# Altium footprint library Specific Footprints.PcbLib: 54 footprints (part 2 of 4)
Each footprint in its own frame and in the unit in brackets; x right, y up, seen from the top. Pads: shape width x height; smd on the part's side, far side on the other; paste and mask are expansions set on the pad; w line width, h text height; cw(c..) or ccw(c..) is an arc to the next point about the centre after c.
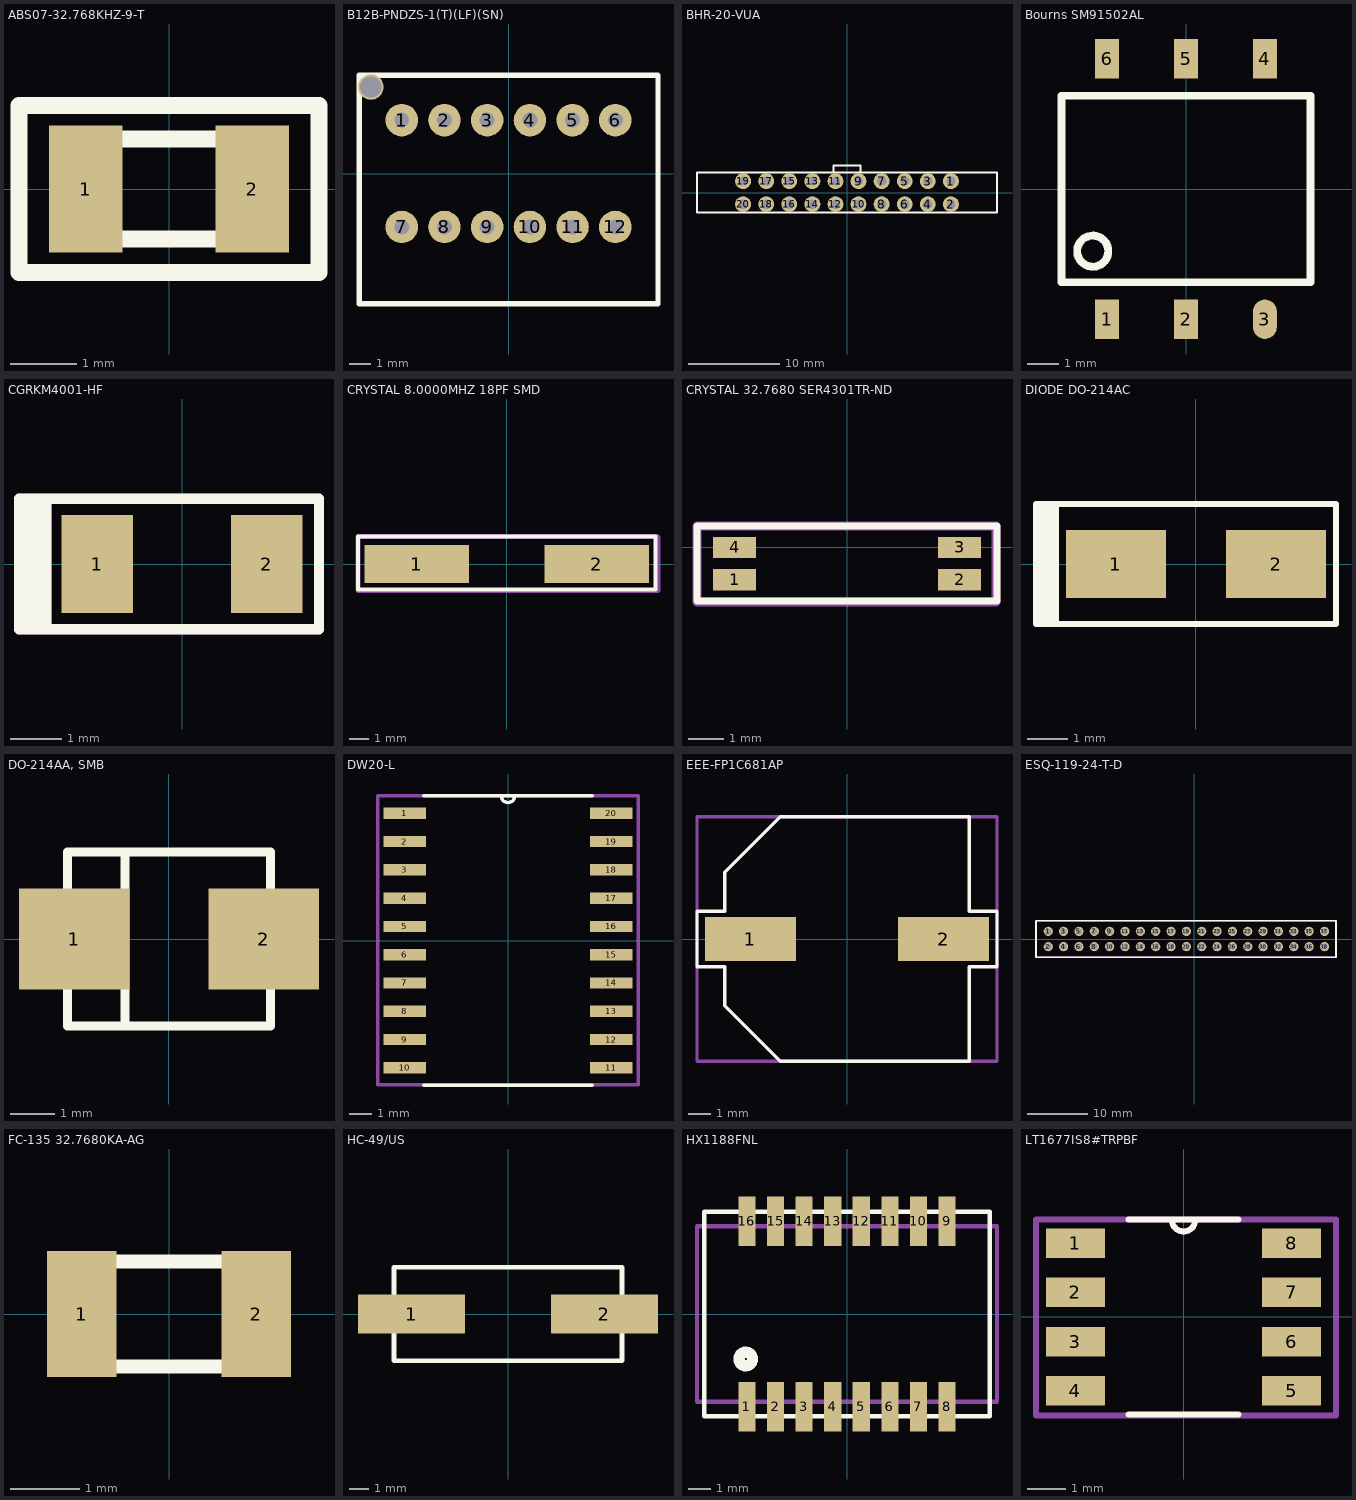
[diagram p1: the footprints below, top view; thin cyan lines are the x and y axes]

## ABS07-32.768KHZ-9-T [mm] "32.768kHz ±20ppm Crystal 9pF 70 kOhms 2-SMD, No Lead"
pads (2):
  rect 1.1x1.9 smd: 1(-1.25,0) 2(1.25,0)
Top Overlay:
  lines w0.254: -2.25,-1.25 2.25,-1.25 2.25,1.25 -2.25,1.25 -2.25,-1.25 ; -1.6,-0.75 1.6,-0.75 1.6,0.75 -1.6,0.75 -1.6,-0.75
3D body "ABS07.STEP": height 0.9, standoff 0.01, extent -1.6,-0.749 1.6,0.749

## B12B-PNDZS-1(T)(LF)(SN) [mm]
pads (13):
  round 1.524 hole 0.7: 1(-5,2.5) 2(-3,2.5) 3(-1,2.5) 4(1,2.5) 5(3,2.5) 6(5,2.5) 7(-5,-2.5) 8(-3,-2.5) 9(-1,-2.5) 10(1,-2.5) 11(3,-2.5) 12(5,-2.5)
  round 1.2 hole 1: ""(-6.45,4.05)
Top Overlay:
  lines w0.254: -7,-6.1 -7,4.6 7,4.6 7,-6.1 -7,-6.1

## BHR-20-VUA [mm]
pads (20):
  round 1.75 hole 1.02: 1(11.43,1.27) 2(11.43,-1.27) 3(8.89,1.27) 4(8.89,-1.27) 5(6.35,1.27) 6(6.35,-1.27) 7(3.81,1.27) 8(3.81,-1.27) 9(1.27,1.27) 10(1.27,-1.27) 11(-1.27,1.27) 12(-1.27,-1.27) 13(-3.81,1.27) 14(-3.81,-1.27) 15(-6.35,1.27) 16(-6.35,-1.27) 17(-8.89,1.27) 18(-8.89,-1.27) 19(-11.43,1.27) 20(-11.43,-1.27)
Top Overlay:
  lines w0.2: -1.5,2.25 -1.5,3 1.5,3 1.5,2.25 ; -16.5,-2.2 16.5,-2.2 16.5,2.2 -16.5,2.2 -16.5,-2.2

## Bourns SM91502AL [mm]
pads (6):
  rect 0.76x1.27 smd: 1(-2.54,-4.19) 2(0,-4.19) 4(2.54,4.19) 5(0,4.19) 6(-2.54,4.19)
  oval 0.76x1.27 smd: 3(2.54,-4.19)
Top Overlay:
  circle w0.254: c-3,-2 r0.5
  lines w0.254: -4,-3 -4,3 4,3 4,-3 2,-3 -2,-3 -4,-3

## CGRKM4001-HF [mil]
pads (2):
  rect 55x75 smd: 1(-65,0) 2(65,0)
Top Overlay:
  rectangle: -125,-50 -100,50
  lines w7.87: -125,-50 -125,50 105,50 105,-50 -125,-50
Mechanical 5:
  rectangle: -125,-50 -100,50
  lines w7.87: -125,-50 -125,50 105,50 105,-50 -125,-50
  text "'.Designator'" at -92,-11 h19.68
3D body "CGRKM.step": height 67.24, standoff 0, extent -73,-35.52 72.99,35.5

## CRYSTAL 8.0000MHZ 18PF SMD [mm]
pads (2):
  rect 5.5x2 smd: 1(-4.75,0) 2(4.75,0)
Top Overlay:
  lines w0.2: -7.85,-1.35 7.85,-1.35 7.85,1.45 -7.85,1.45 -7.85,1.15 -7.85,-1.35
Mechanical 5:
  lines w0.254: -7.85,-1.4 -7.85,1.45 7.7,1.45 7.925,1.45 7.975,1.4 7.975,-1.4 -7.85,-1.4
  text "'.Designator'" at -5.825,-0.3 h1
3D body "User Library-ECS-240-20-5PX-TR.STEP": height 4.3, standoff 0, extent -6.575,-2.425 6.625,2.375

## CRYSTAL 32.7680 SER4301TR-ND [mm] "CRYSTAL 32.7680 KHZ 12.5PF SMD"
pads (4):
  rect 1.2x0.6 smd: 1(-3.15,-0.9) 2(3.15,-0.9) 3(3.15,0) 4(-3.15,0)
Top Overlay:
  lines w0.2: -4.2,-1.5 -4.2,-0.75 -4.2,0.6 4.2,0.6 4.2,-1.5 -4.2,-1.5
Mechanical 5:
  lines w0.254: -4.2,-1.525 4.175,-1.525 4.175,0.6 -4.2,0.6 -4.2,-1.525
  text "'.Designator'" at -2.025,-0.45 h0.35

## DIODE DO-214AC [mm]
pads (2):
  rect 2.5x1.7 smd: 1(-2,0) 2(2,0)
Top Overlay:
  rectangle: -4,-1.5 -3.5,1.5
  region: -3.5,1.25
  lines w0.152: -4,-1.5 -4,1.5 ; -4,-1.5 -3.5,-1.5 ; -4,-1.5 -4,1.5 ; -4,1.5 -3.5,1.5 ; -3.5,-1.5 -3.5,1.5 ; -3.5,-1.5 3.5,-1.5 3.5,1.5 -3.5,1.5
3D body "DO-214AC(SMA).step": height 2.3, standoff 0.01, extent -2.743,-1.397 2.743,1.397

## DO-214AA, SMB [mm]
pads (2):
  rect 2.5x2.3 smd: 1(-2.15,0) 2(2.15,0)
Top Overlay:
  lines w0.2: -1,-1.975 -1,1.975 ; -2.3,-1.975 2.3,-1.975 2.3,1.975 -2.3,1.975 -2.3,-1.975

## DW20-L [mil]
pads (20):
  rect 75x20 smd: 1(-182.5,225) 2(-182.5,175) 3(-182.5,125) 4(-182.5,75) 5(-182.5,25) 6(-182.5,-25) 7(-182.5,-75) 8(-182.5,-125) 9(-182.5,-175) 10(-182.5,-225) 11(182.5,-225) 12(182.5,-175) 13(182.5,-125) 14(182.5,-75) 15(182.5,-25) 16(182.5,25) 17(182.5,75) 18(182.5,125) 19(182.5,175) 20(182.5,225)
Top Overlay:
  lines w6: -149.5,-256 149.5,-256 ; -149.5,256 149.5,256 ; -12,256 ccw(c0,256) 12,256
Mechanical 5:
  lines w5.98: -230,-255 -230,256 ; 230,-255 230,256
  lines w6: -230,-255 230,-255 ; -230,256 230,256 ; -12,256 ccw(c0,256) 12,256
  text "'.Designator'" at -143,-7 h27.56
3D body "DW20-L.stp": height 104.1, standoff 0, extent -209.5,-256 209.5,256

## EEE-FP1C681AP [mm]
pads (2):
  rect 4.1x2 smd: 1(-4.35,0) 2(4.35,0)
Top Overlay:
  lines w0.152: -6.75,-1.25 -6.75,1.25 -6.5,1.25 -5.5,1.25 -5.5,3 -3,5.5 5.5,5.5 5.5,1.25 6.75,1.25 6.75,-1.25 5.5,-1.25 5.5,-5.5 -3,-5.5 -5.5,-3 -5.5,-1.25 -6.75,-1.25
Mechanical 5:
  lines w0.152: -6.75,-5.5 6.75,-5.5 6.75,-1.25 6.75,1.25 6.75,5.5 -6.75,5.5 -6.75,1.25 -6.75,-1.25 -6.75,-5.5
  text "'.Designator'" at -1.5,-0.25 h0.6
3D body "680ucap.stp": height 10.21, standoff 0.01, extent -5.85,-5.15 5.85,5.15

## ESQ-119-24-T-D [mil] "2x19 Elevated Socket"
pads (38):
  round 60 hole 40: 1(-950,50) 2(-950,-50) 3(-850,50) 4(-850,-50) 5(-750,50) 6(-750,-50) 7(-650,50) 8(-650,-50) 9(-550,50) 10(-550,-50) 11(-450,50) 12(-450,-50) 13(-350,50) 14(-350,-50) 15(-250,50) 16(-250,-50) 17(-150,50) 18(-150,-50) 19(-50,50) 20(-50,-50) 21(50,50) 22(50,-50) 23(150,50) 24(150,-50) 25(250,50) 26(250,-50) 27(350,50) 28(350,-50) 29(450,50) 30(450,-50) 31(550,50) 32(550,-50) 33(650,50) 34(650,-50) 35(750,50) 36(750,-50) 37(850,50) 38(850,-50)
Top Overlay:
  lines w10: -1030,-117.48 925,-117.48 925,-58.74 925,58.74 925,117.48 -1030,117.48 -1030,-117.48
Mechanical 5:
  lines w10: -1030,-117.48 -1030,117.48 925,117.48 925,58.74 925,-58.74 925,-117.48 -1030,-117.48
  text "'.Designator'" at 0,0 h28
3D body "ESQ-119-24-T-D.stp": height 535.5, standoff -379.5, extent -1022.99,-97.64 897.01,102.36

## FC-135 32.7680KA-AG [mm]
pads (2):
  rect 1x1.8 smd: 1(-1.25,0) 2(1.25,0)
Top Overlay:
  lines w0.2: -1.5,-0.75 -1.5,0.75 1.5,0.75 1.5,-0.75 -1.5,-0.75

## HC-49/US [mm]
pads (2):
  rect 5.5x2 smd: 1(-4.95,0) 2(4.95,0)
Top Overlay:
  lines w0.254: -5.85,-2.4 -5.85,2.4 5.85,2.4 5.85,-2.4 -5.85,-2.4
3D body "crystal_hc-49-smd.step": height 4.2, standoff 0, extent -5.807,-2.35 5.802,2.35

## HX1188FNL [mm]
pads (16):
  rect 0.76x2.2 smd: 1(-4.445,-4.127) 2(-3.175,-4.127) 3(-1.905,-4.127) 4(-0.635,-4.127) 5(0.635,-4.127) 6(1.905,-4.127) 7(3.175,-4.127) 8(4.445,-4.127) 9(4.445,4.127) 10(3.175,4.127) 11(1.905,4.127) 12(0.635,4.127) 13(-0.635,4.127) 14(-1.905,4.127) 15(-3.175,4.127) 16(-4.445,4.127)
Top Overlay:
  circle w0.5: c-4.5,-2 r0.3
  lines w0.2: -6.35,-4.545 6.35,-4.545 6.35,4.545 -6.35,4.545 -6.35,-4.545
Mechanical 15:
  lines w0.2: -6.665,-3.9 6.665,-3.9 6.665,3.9 -6.665,3.9 -6.665,-3.9

## LT1677IS8#TRPBF [mil] "IC OPAMP GP 7.2MHZ RRO 8SO"
pads (8):
  rect 60x30 smd: 1(-110,75) 2(-110,25) 3(-110,-25) 4(-110,-75) 5(110,-75) 6(110,-25) 7(110,25) 8(110,75)
Top Overlay:
  lines w6: -56,-99 56,-99 ; -56,99 -12,99 ; 56,99 12,99 ; -12,99 ccw(c0,99) 12,99 ; -12,99 12,99
Mechanical 5:
  lines w5.98: -150,-100 -150,99 ; 155,-100 155,99
  lines w6: -150,-100 155,-100 ; -150,99 -12,99 ; 155,99 12,99 ; -12,99 ccw(c0,99) 12,99 ; -12,99 12,99
  text "'.Designator'" at -65,-10 h19.68
3D body "SOIC08 narrow.stp": height 78.74, standoff 0.13, extent -121.32,-98.42 121.32,98.43